# Altium footprint library PCB1.PcbLib: 16 footprints
Each footprint in its own frame and in the unit in brackets; x right, y up, seen from the top. Pads: shape width x height; smd on the part's side, far side on the other; paste and mask are expansions set on the pad; w line width, h text height; cw(c..) or ccw(c..) is an arc to the next point about the centre after c.
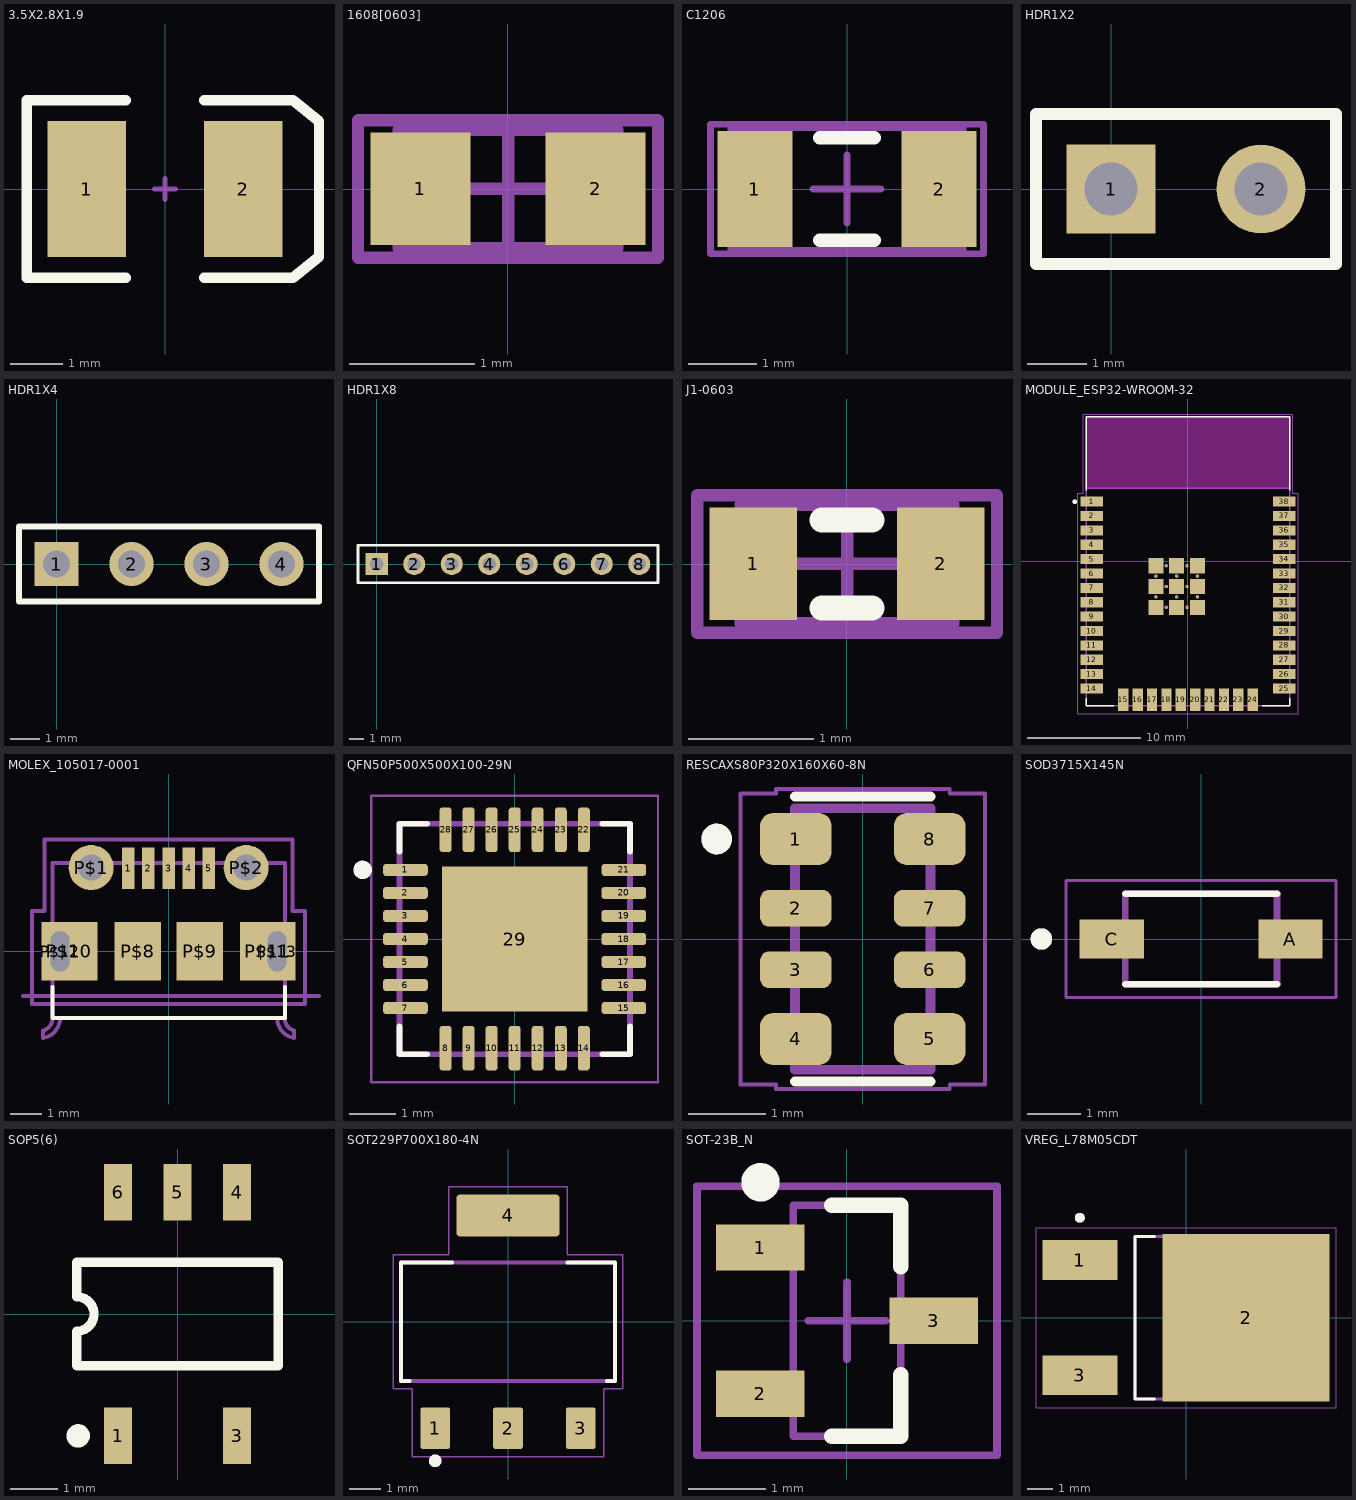
[diagram p0: the footprints below, top view; thin cyan lines are the x and y axes]

## 3.5X2.8X1.9 [mm]
pads (2):
  rect 1.5x2.6 smd: 1(-1.5,0) 2(1.5,0)
Top Overlay:
  lines w0.2: -0.75,-1.7 -2.65,-1.7 -2.65,1.7 -0.75,1.7 ; 0.75,-1.7 2.45,-1.7 2.95,-1.3 2.95,1.3 2.45,1.7 0.75,1.7
Mechanical 1:
  lines w0.1: -0.2,0 0.2,0 ; 0,-0.2 0,0.2

## 1608[0603] [mm]
pads (2):
  rect 0.8x0.9 smd: 1(-0.7,0) 2(0.7,0)
Mechanical 13:
  lines w0.1: -0.875,-0.475 -0.875,0.475 0.875,0.475 0.875,-0.475 -0.875,-0.475
Mechanical 15:
  lines w0.1: -0.475,0 0.475,0 ; 0,-0.475 0,0.475 ; -1.2,-0.55 -1.2,0.55 1.2,0.55 1.2,-0.55 -1.2,-0.55
3D body: height 1.3, standoff 0, extent -0.875,-0.475 0.875,0.475

## C1206 [mm]
pads (2):
  rect 1.1x1.7 smd: 1(-1.35,0) 2(1.35,0)
Top Overlay:
  lines w0.2: -0.4,-0.75 0.4,-0.75 ; -0.4,0.75 0.4,0.75
Mechanical 13:
  lines w0.1: -1.7,-0.9 1.7,-0.9 1.7,0.9 -1.7,0.9 -1.7,-0.9
Mechanical 15:
  lines w0.1: -0.5,0 0.5,0 ; 0,-0.5 0,0.5 ; -2,-0.95 2,-0.95 2,0.95 -2,0.95 -2,-0.95
3D body: height 1.3, standoff 0, extent -1.7,-0.9 1.7,0.9

## HDR1X2 [mm]
pads (2):
  rect 1.5x1.5 hole 0.9: 1(0,0)
  round 1.5 hole 0.9: 2(2.54,0)
Top Overlay:
  lines w0.2: -1.27,-1.27 3.81,-1.27 3.81,1.27 -1.27,1.27 -1.27,-1.27

## HDR1X4 [mm]
pads (4):
  rect 1.5x1.5 hole 0.9: 1(0,0)
  round 1.5 hole 0.9: 2(2.54,0) 3(5.08,0) 4(7.62,0)
Top Overlay:
  lines w0.2: -1.27,-1.27 -1.27,1.27 8.89,1.27 8.89,-1.27 -1.27,-1.27

## HDR1X8 [mm]
pads (8):
  rect 1.5x1.5 hole 0.9: 1(0,0)
  round 1.5 hole 0.9: 2(2.54,0) 3(5.08,0) 4(7.62,0) 5(10.16,0) 6(12.7,0) 7(15.24,0) 8(17.78,0)
Top Overlay:
  lines w0.2: -1.27,-1.27 19.05,-1.27 19.05,1.27 -1.27,1.27 -1.27,-1.27

## J1-0603 [mm]
pads (2):
  rect 0.7x0.9 smd: 1(-0.75,0) 2(0.75,0)
Top Overlay:
  lines w0.2: -0.2,-0.35 0.2,-0.35 ; -0.2,0.35 0.2,0.35
Mechanical 13:
  lines w0.1: -0.85,-0.475 -0.85,0.475 0.85,0.475 0.85,-0.475 -0.85,-0.475
Mechanical 15:
  lines w0.1: -0.475,0 0.475,0 ; 0,-0.475 0,0.475 ; -1.2,-0.55 -1.2,0.55 1.2,0.55 1.2,-0.55 -1.2,-0.55
3D body: height 0.9, standoff 0, extent -0.85,-0.475 0.85,0.475

## MODULE_ESP32-WROOM-32 [mm]
pads (59):
  rect 2x0.9 smd: 1(-8.5,5.26) 2(-8.5,3.99) 3(-8.5,2.72) 4(-8.5,1.45) 5(-8.5,0.18) 6(-8.5,-1.09) 7(-8.5,-2.36) 8(-8.5,-3.63) 9(-8.5,-4.9) 10(-8.5,-6.17) 11(-8.5,-7.44) 12(-8.5,-8.71) 13(-8.5,-9.98) 14(-8.5,-11.25) 25(8.5,-11.25) 26(8.5,-9.98) 27(8.5,-8.71) 28(8.5,-7.44) 29(8.5,-6.17) 30(8.5,-4.9) 31(8.5,-3.63) 32(8.5,-2.36) 33(8.5,-1.09) 34(8.5,0.18) 35(8.5,1.45) 36(8.5,2.72) 37(8.5,3.99) 38(8.5,5.26)
  rect 0.9x2 smd: 15(-5.715,-12.25) 16(-4.445,-12.25) 17(-3.175,-12.25) 18(-1.905,-12.25) 19(-0.635,-12.25) 20(0.635,-12.25) 21(1.905,-12.25) 22(3.175,-12.25) 23(4.445,-12.25) 24(5.715,-12.25)
  rect 1.33x1.33 smd: 39_1(-2.835,-0.405) 39_2(-1,-0.405) 39_3(0.835,-0.405) 39_4(-2.835,-2.24) 39_5(-1,-2.24) 39_6(0.835,-2.24) 39_7(-2.835,-4.075) 39_8(-1,-4.075) 39_9(0.835,-4.075)
  round 0.3 hole 0.2: 39_10(-1.917,-0.405) 39_11(-0.082,-0.405) 39_12(-2.835,-1.322) 39_13(-1,-1.322) 39_14(0.835,-1.322) 39_15(-1.917,-2.24) 39_16(-0.082,-2.24) 39_17(-2.835,-3.157) 39_18(-1,-3.157) 39_19(0.835,-3.157) 39_20(-1.917,-4.075) 39_21(-0.082,-4.075)
Top Overlay:
  circle w0.2: c-10,5.25 r0.1
  lines w0.127: -9,-12.1 -9,-12.75 -6.55,-12.75 ; -9,6.25 -9,12.75 9,12.75 9,6.25 ; 6.55,-12.75 9,-12.75 9,-12.1
Keep-Out Layer:
  region: 9,6.45 -9,6.45 -9,12.75 9,12.75
  region: 9,6.45 -9,6.45 -9,12.75 9,12.75
Mechanical 13:
  circle w0.2: c-10,5.25 r0.1
  lines w0.127: -9,6.45 -9,-12.75 9,-12.75 9,6.45 ; -9,6.45 -9,12.75 9,12.75 9,6.45 ; -9,6.45 9,6.45
  text "ANTENNA" at -6,9 h1.78
Mechanical 15:
  lines w0.05: -9.75,-13.5 9.75,-13.5 9.75,6 9.25,6 9.25,13 -9.25,13 -9.25,6 -9.75,6 -9.75,-13.5
3D body "step_temp.STEP": height 3.2, standoff 0, extent -9,-12.75 9,12.75

## MOLEX_105017-0001 [mm]
pads (13):
  rect 0.4x1.35 smd: 1(-1.3,2.675) 2(-0.65,2.675) 3(0,2.675) 4(0.65,2.675) 5(1.3,2.675)
  round 1.45 hole 0.85: P$1(-2.5,2.7) P$2(2.5,2.7)
  rect 1.5x1.9 smd: P$8(-1,0) P$9(1,0)
  rect 1.8x1.9 smd: P$10(-3.2,0) P$11(3.2,0)
  oval 0.8x1.6 hole 0.6 slot 1.3 at 90 deg: P$12(-3.5,0) P$13(3.5,0)
Top Overlay:
  lines w0.127: -3.75,-1.15 -3.75,-2.15 3.75,-2.15 3.75,-1.15
Mechanical 13:
  lines w0.127: -4.7,-1.45 4.85,-1.45 ; -4.05,-2.8 -4.05,-2.55 ; -4.049,-2.55 ccw(c-4.128,-2.179) -3.75,-2.153 ; -4.047,-2.8 ccw(c-4.162,-2.147) -3.5,-2.147 ; -3.75,-2.15 -3.75,2.85 3.75,2.85 3.75,-2.15 ; 3.5,-2.147 ccw(c4.162,-2.147) 4.047,-2.8 ; 3.75,-2.153 ccw(c4.128,-2.179) 4.049,-2.55 ; 4.05,-2.8 4.05,-2.55
  text "PCB Edge" at 4.358,-1.453 h0.25
Mechanical 15:
  lines w0.127: -4.4,-1.7 4.4,-1.7 4.4,1.3 4,1.3 4,3.6 -4,3.6 -4,1.3 -4.4,1.3 -4.4,-1.7

## QFN50P500X500X100-29N [mm]
pads (29):
  rrect50% 0.97x0.26 smd: 1(-2.37,1.5) 2(-2.37,1) 3(-2.37,0.5) 4(-2.37,0) 5(-2.37,-0.5) 6(-2.37,-1) 7(-2.37,-1.5) 15(2.37,-1.5) 16(2.37,-1) 17(2.37,-0.5) 18(2.37,0) 19(2.37,0.5) 20(2.37,1) 21(2.37,1.5)
  rrect50% 0.26x0.97 smd: 8(-1.5,-2.37) 9(-1,-2.37) 10(-0.5,-2.37) 11(0,-2.37) 12(0.5,-2.37) 13(1,-2.37) 14(1.5,-2.37) 22(1.5,2.37) 23(1,2.37) 24(0.5,2.37) 25(0,2.37) 26(-0.5,2.37) 27(-1,2.37) 28(-1.5,2.37)
  rect 3.15x3.15 smd paste-3: 29(0,0)
Top Overlay:
  circle w0.2: c-3.3,1.5 r0.1
  lines w0.127: -2.5,-1.9 -2.5,-2.5 -1.9,-2.5 ; -2.5,1.9 -2.5,2.5 -1.9,2.5 ; 1.9,-2.5 2.5,-2.5 2.5,-1.9 ; 1.9,2.5 2.5,2.5 2.5,1.9
Top Paste:
  region: 0.989,-0.991 -0.991,-0.991 -0.991,0.989 0.989,0.989
Mechanical 13:
  lines w0.127: -2.5,-2.5 -2.5,2.5 2.5,2.5 2.5,-2.5 -2.5,-2.5
Mechanical 15:
  lines w0.05: -3.11,-3.11 -3.11,3.11 3.11,3.11 3.11,-3.11 -3.11,-3.11

## RESCAXS80P320X160X60-8N [mm]
pads (8):
  rrect50% 0.93x0.68 smd: 1(-0.87,1.3) 4(-0.87,-1.3) 5(0.87,-1.3) 8(0.87,1.3)
  rrect50% 0.93x0.48 smd: 2(-0.87,0.4) 3(-0.87,-0.4) 6(0.87,-0.4) 7(0.87,0.4)
Top Overlay:
  circle w0.2: c-1.9,1.3 r0.1
  lines w0.127: -0.88,-1.854 0.88,-1.854 ; -0.88,1.854 0.88,1.854
Mechanical 13:
  circle w0.2: c-1.9,1.3 r0.1
  lines w0.127: -0.88,-1.7 -0.88,1.7 0.88,1.7 0.88,-1.7 -0.88,-1.7
Mechanical 15:
  lines w0.05: -1.59,-1.89 -1.13,-1.89 -1.13,-1.95 1.13,-1.95 1.13,-1.89 1.59,-1.89 1.59,1.89 1.13,1.89 1.13,1.95 -1.13,1.95 -1.13,1.89 -1.59,1.89 -1.59,-1.89

## SOD3715X145N [mm]
pads (2):
  rect 1.21x0.73 smd: A(1.68,0) C(-1.68,0)
Top Overlay:
  circle w0.2: c-3,0 r0.1
  lines w0.127: -1.425,-0.85 1.425,-0.85 ; -1.425,0.85 1.425,0.85
Mechanical 13:
  circle w0.2: c-3,0 r0.1
  lines w0.127: -1.425,-0.85 1.425,-0.85 1.425,0.85 -1.425,0.85 -1.425,-0.85
Mechanical 15:
  lines w0.05: -2.535,-1.1 2.535,-1.1 2.535,1.1 -2.535,1.1 -2.535,-1.1
3D body "step_temp.STEP": height 0.8, standoff -0.73, extent -1.825,-0.775 1.825,0.775

## SOP5(6) [mm]
pads (5):
  rect 0.6x1.2 smd: 1(-1.27,-2.6) 3(1.27,-2.6) 4(1.27,2.6) 5(0,2.6) 6(-1.27,2.6)
Top Overlay:
  circle w0.25: c-2.12,-2.6 r0.125
  lines w0.2: -2.15,-1.1 2.15,-1.1 2.15,1.1 -2.15,1.1 -2.15,0.367 cw(c-2.15,0) -2.15,-0.367 -2.15,-1.1

## SOT229P700X180-4N [mm]
pads (4):
  rrect15% 0.93x1.31 smd: 1(-2.29,-3.345) 2(0,-3.345) 3(2.29,-3.345)
  rrect15% 3.24x1.31 smd: 4(0,3.345)
Top Overlay:
  circle w0.2: c-2.29,-4.373 r0.1
  lines w0.127: -3.1,-1.86 -3.36,-1.86 -3.36,1.86 -1.76,1.86 ; 1.87,1.86 3.36,1.86 3.36,-1.86 3.11,-1.86
Mechanical 13:
  lines w0.127: -3.36,-1.86 3.36,-1.86 3.36,1.86 -3.36,1.86 -3.36,-1.86
Mechanical 15:
  lines w0.05: -3.61,-2.11 -3.01,-2.11 -3.01,-4.25 3.01,-4.25 3.01,-2.11 3.61,-2.11 3.61,2.11 1.87,2.11 1.87,4.25 -1.87,4.25 -1.87,2.11 -3.61,2.11 -3.61,-2.11

## SOT-23B_N [mm]
pads (3):
  rect 1.15x0.6 smd: 1(-1.125,0.95) 2(-1.125,-0.95) 3(1.125,0)
Top Overlay:
  circle w0.25: c-1.125,1.8 r0.125
  lines w0.2: -0.2,-1.5 0.7,-1.5 0.7,-0.7 ; -0.2,1.5 0.7,1.5 0.7,0.7
Mechanical 13:
  lines w0.1: -0.7,-1.5 -0.7,1.5 0.7,1.5 0.7,-1.5 -0.7,-1.5
Mechanical 15:
  lines w0.1: -0.5,0 0.5,0 ; 0,-0.5 0,0.5 ; -1.95,-1.75 -1.95,1.75 1.95,1.75 1.95,-1.75 -1.95,-1.75
3D body: height 1.14, standoff 0, extent -0.7,-1.5 0.7,1.5

## VREG_L78M05CDT [mm]
pads (3):
  rect 3x1.6 smd: 1(-4.25,2.3) 3(-4.25,-2.3)
  rect 6.7x6.7 smd paste-2.645: 2(2.4,0)
Top Overlay:
  circle w0.2: c-4.25,4 r0.1
  lines w0.127: -1.264,-3.25 -2.037,-3.25 -2.037,3.25 -1.264,3.25
Top Paste:
  region: 3.105,1.755 1.695,1.755 1.695,3.165 3.105,3.165
  region: 5.565,1.755 4.155,1.755 4.155,3.165 5.565,3.165
  region: 5.565,-0.705 4.155,-0.705 4.155,0.705 5.565,0.705
  region: 3.105,-3.165 1.695,-3.165 1.695,-1.755 3.105,-1.755
  region: 5.565,-3.165 4.155,-3.165 4.155,-1.755 5.565,-1.755
  region: 0.645,1.755 -0.765,1.755 -0.765,3.165 0.645,3.165
  region: 0.645,-0.705 -0.765,-0.705 -0.765,0.705 0.645,0.705
  region: 0.645,-3.165 -0.765,-3.165 -0.765,-1.755 0.645,-1.755
Mechanical 13:
  circle w0.2: c-4.25,4 r0.1
  lines w0.127: -2.037,-3.25 4.062,-3.25 4.062,3.25 -2.037,3.25 -2.037,-3.25
Mechanical 15:
  lines w0.05: -6,-3.6 -6,3.6 6,3.6 6,-3.6 -6,-3.6